# Altium footprint library EButterflyPcbLib.PcbLib: 106 footprints (part 3 of 7)
Each footprint in its own frame and in the unit in brackets; x right, y up, seen from the top. Pads: shape width x height; smd on the part's side, far side on the other; paste and mask are expansions set on the pad; w line width, h text height; cw(c..) or ccw(c..) is an arc to the next point about the centre after c.
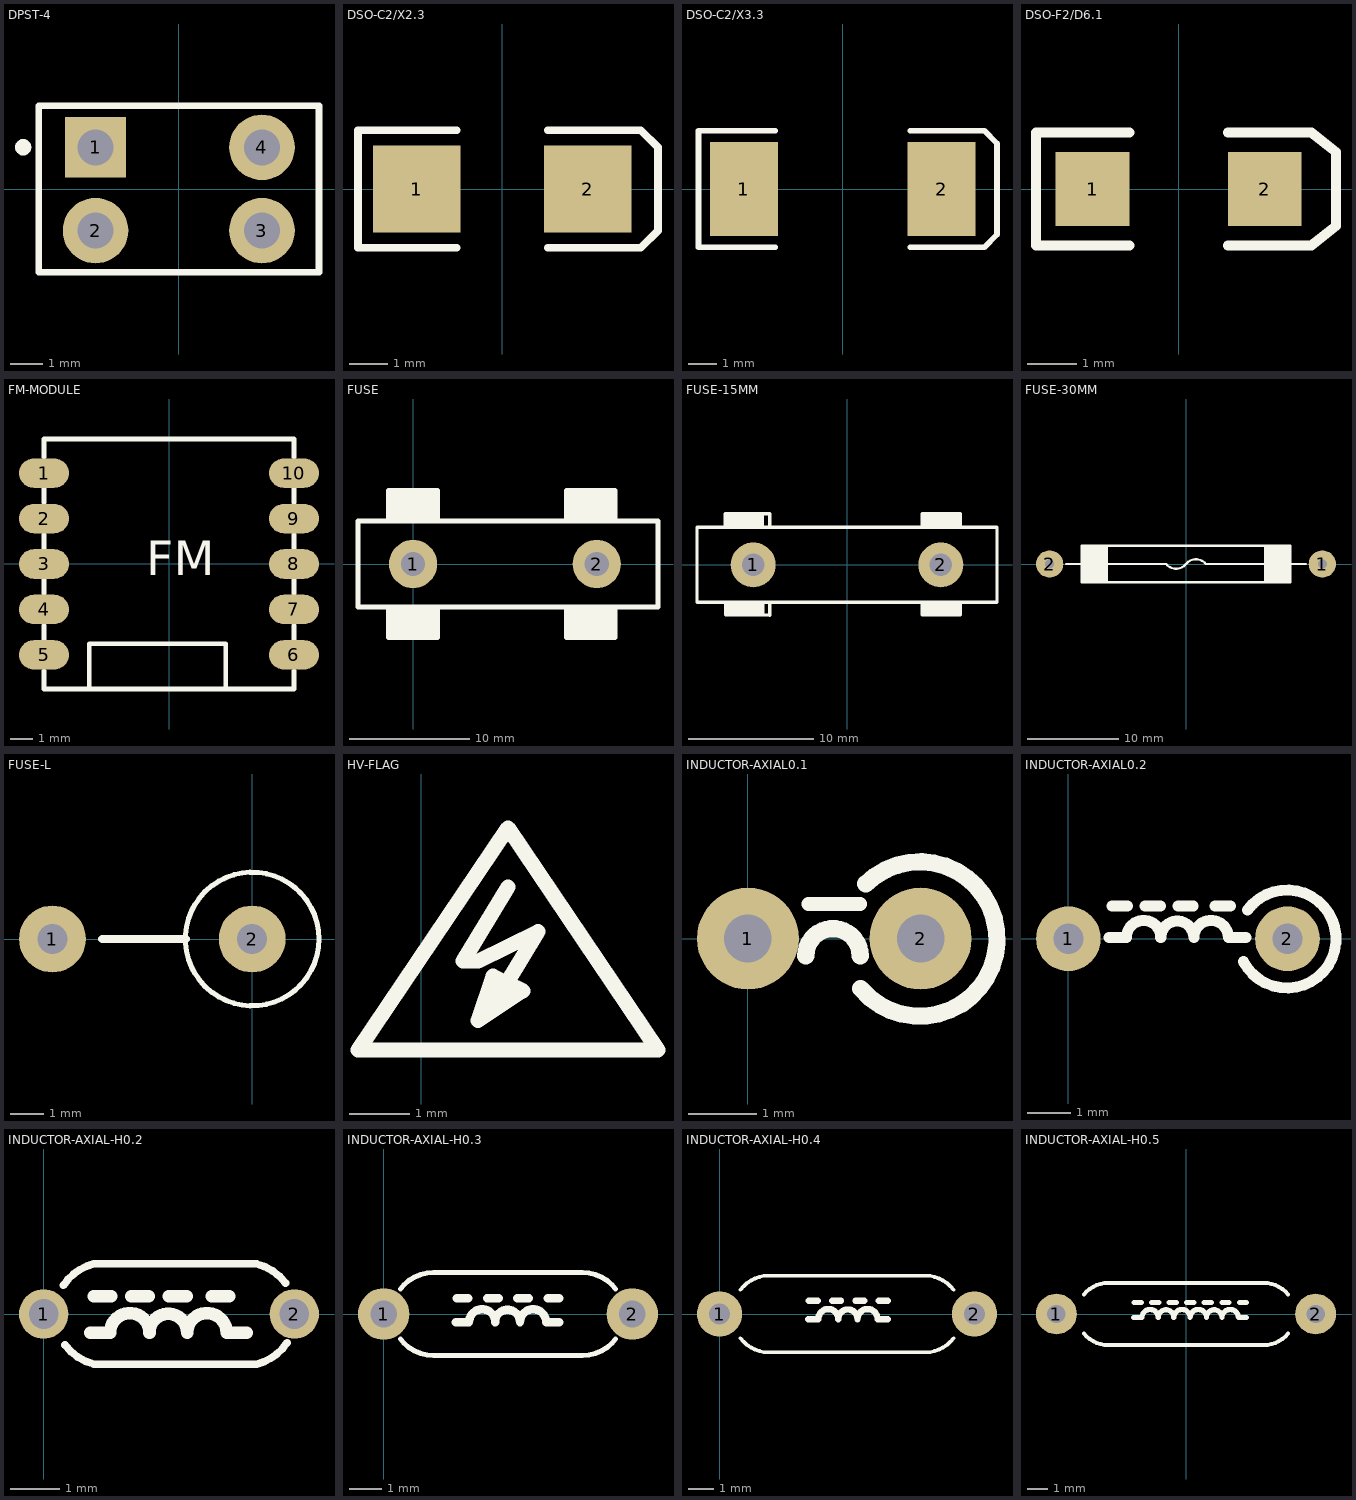
[diagram p2: the footprints below, top view; thin cyan lines are the x and y axes]

## DPST-4 [mm]
pads (4):
  rect 1.85x1.85 hole 1.1: 1(-2.54,1.27)
  round 2 hole 1.1: 2(-2.54,-1.27) 3(2.54,-1.27) 4(2.54,1.27)
Top Overlay:
  circle w0.25: c-4.751,1.274 r0.125
  lines w0.2: -4.28,-2.54 4.28,-2.54 4.28,2.54 -4.28,2.54 -4.28,-2.54

## DSO-C2/X2.3 [mm]
pads (2):
  rect 2.3x2.3 smd: 1(-2.25,0) 2(2.25,0)
Top Overlay:
  lines w0.2: -1.2,-1.55 -3.8,-1.55 -3.8,1.55 -1.2,1.55 ; 1.2,-1.55 3.65,-1.55 4.1,-1.1 4.1,1.1 3.65,1.55 1.2,1.55
3D body: height 1.5, standoff 0, extent -1.75,-0.75 1.75,0.75

## DSO-C2/X3.3 [mm]
pads (2):
  rect 2.4x3.3 smd: 1(-3.475,0) 2(3.475,0)
Top Overlay:
  lines w0.2: -2.375,-2.05 -5.075,-2.05 -5.075,2.05 -2.375,2.05 ; 2.375,-2.05 4.975,-2.05 5.425,-1.6 5.425,1.6 4.975,2.055 ; 2.375,2.05 4.975,2.05
3D body: height 1.5, standoff 0, extent -1.75,-0.75 1.75,0.75

## DSO-F2/D6.1 [mm]
pads (2):
  rect 1.5x1.5 smd: 1(-1.75,0) 2(1.75,0)
Top Overlay:
  lines w0.2: -1,-1.15 -2.9,-1.15 -2.9,1.15 -1,1.15 ; 1,-1.15 2.7,-1.15 3.2,-0.75 3.2,0.75 2.7,1.15 1,1.15
3D body: height 1.5, standoff 0, extent -1.75,-0.75 1.75,0.75

## FM-MODULE [mm]
height 2
pads (10):
  oval 2.2x1.3 smd: 1(-5.5,4) 2(-5.5,2) 3(-5.5,0) 4(-5.5,-2) 5(-5.5,-4) 6(5.5,-4) 7(5.5,-2) 8(5.5,0) 9(5.5,2) 10(5.5,4)
Top Overlay:
  lines w0.2: -5.5,-4.7 -5.5,-5.5 5.5,-5.5 5.5,-4.7 ; -5.5,-3.3 -5.5,-2.7 ; -5.5,-1.3 -5.5,-0.7 ; -5.5,0.7 -5.5,1.3 ; -5.5,2.7 -5.5,3.3 ; -5.5,4.7 -5.5,5.5 5.5,5.5 5.5,4.7 ; 5.5,-3.3 5.5,-2.7 ; 5.5,-1.3 5.5,-0.7 ; 5.5,0.7 5.5,1.3 ; 5.5,2.7 5.5,3.3 ; -3.5,-5.5 -3.5,-3.5 2.5,-3.5 2.5,-5.5 -3.5,-5.5
  text "FM" at -1,-0.5 h1.52
3D body: height 1, standoff 0, extent -3.499,-5.499 2.499,-3.501
3D body: height 2, standoff 0, extent -5.499,-5.499 5.499,5.499

## FUSE [mm]
pads (2):
  round 4 hole 2: 1(0,0) 2(15.24,0)
Top Overlay:
  rectangle: 12.7,-6.096 16.764,-3.556
  rectangle: -2.032,-6.096 2.032,-3.556
  rectangle: 12.7,3.556 16.764,6.096
  rectangle: -2.032,3.556 2.032,6.096
  lines w0.4: -2.032,-3.556 -2.032,-6.096 2.032,-6.096 2.032,-3.556 ; -2.032,3.556 -2.032,6.096 2.032,6.096 2.032,3.556 ; 12.7,-3.556 12.7,-6.096 16.764,-6.096 16.764,-3.556 ; 12.7,3.556 12.7,6.096 16.764,6.096 16.764,4.064 16.764,3.556 ; -4.572,-3.556 20.32,-3.556 20.32,3.556 -4.572,3.556 -4.572,2.54 -4.572,-2.54 -4.572,-3.556
3D body: height 10.5, standoff -2.87, extent -4.301,-4.674 20.099,4.726
3D body: height 8.55, standoff 3.45, extent -2.152,-2.311 17.548,2.789

## FUSE-15MM [mm]
height 6
pads (2):
  round 3.6 hole 1.8: 1(-7.5,0) 2(7.5,0)
Top Overlay:
  rectangle: -9.666,-3.94 -6.618,-2.911
  rectangle: -9.679,3.137 -6.631,4.166
  rectangle: 6.069,-4.013 9.117,-2.984
  rectangle: 6.006,3.048 9.054,4.077
  lines w0.254: -9.742,3.061 -9.742,4.077 -6.186,4.077 -6.186,3.061 ; -9.728,-3 -9.728,-4.016 -6.172,-4.016 ; -6.186,-4.039 -6.186,-3.023 ; 6.006,-2.997 6.006,-4.013 9.054,-4.013 ; 6.006,3.048 6.006,4.077 9.054,4.077 9.054,3.048 ; 9.054,-4.026 9.054,-3.023 ; -12,-3 -12,3 12,3 12,-3 -12,-3
3D body: height 10.5, standoff -2.87, extent -12.251,-4.75 12.149,4.65
3D body: height 8.55, standoff 3.45, extent -9.373,-2.489 10.327,2.611

## FUSE-30MM [mm]
height 10
pads (2):
  round 3 hole 1: 1(15,0) 2(-15,0)
Top Overlay:
  rectangle: -11.5,-2.025 -8.579,2
  region: 11.5,2 8.579,2 8.579,-2.025 11.5,-2.025
  lines w0.254: -13.208,0 -11.684,0 ; -11.176,0 -2.179,0 ; -2.179,-0.007 ccw(c-1.092,0.889) 0,0 cw(c1.092,-0.889) 2.179,0.007 ; 2.179,0 3.607,0 ; 3.529,0.004 10.668,0 ; 11.684,0 13.208,0 ; -11.5,-2 -11.5,2 11.5,2 11.5,-2 -11.5,-2
3D body: height 5, standoff 0, extent -10.262,-2.515 9.738,2.485

## FUSE-L [mil]
height 511.81
pads (2):
  round 79 hole 35.43: 1(-236.22,0) 2(0,0)
Top Overlay:
  circle w6: c0,0 r79
  lines w10: -177.17,0 -78.74,0
3D body: height 545.04, standoff -77.66, extent -249.02,-74.21 77.68,83.27

## HV-FLAG [mm]
Top Overlay:
  lines w0.249: 1.191,-92.772 1.937,-91.542 0.942,-92.034 0.693,-92.034 1.44,-90.804 ; -1.048,-93.51 1.44,-89.821 3.927,-93.51 -1.048,-93.51 ; 0.942,-93.018 1.191,-92.28 1.688,-92.526 0.942,-93.018

## INDUCTOR-AXIAL0.1 [mm]
pads (2):
  round 1.5 hole 0.7: 1(0,0) 2(2.54,0)
Top Overlay:
  lines w0.203: 0.889,0.508 1.651,0.508
  lines w0.254: -0.399,0.025 cw(c-0.015,0.025) 0.368,0.025 ; 0.851,-0.254 cw(c1.251,-0.254) 1.651,-0.254 ; 1.658,-0.736 ccw(c2.529,-0.007) 1.735,0.806

## INDUCTOR-AXIAL0.2 [mm]
pads (2):
  round 1.5 hole 0.7: 1(0,0) 2(5.08,0)
Top Overlay:
  lines w0.254: 0.94,0.025 1.346,0.025 cw(c1.746,0.025) 2.146,0.025 ; 1.016,0.762 1.372,0.762 ; 1.778,0.762 2.134,0.762 ; 2.141,0.025 cw(c2.525,0.025) 2.908,0.025 cw(c3.308,0.025) 3.708,0.025 4.115,0.025 ; 2.54,0.762 2.896,0.762 ; 3.404,0.762 3.759,0.762 ; 4.057,-0.523 ccw(c5.069,-0.007) 4.157,0.671

## INDUCTOR-AXIAL-H0.2 [mm]
height 2
pads (2):
  round 1 hole 0.6: 1(0,0) 2(5.08,0)
Top Overlay:
  lines w0.154: 0.399,0.581 cw(c1.27,0) 1.016,1.016 4.318,1.016 cw(c4.064,0) 4.902,0.628 ; 0.432,-0.628 ccw(c1.27,0) 1.016,-1.016 4.318,-1.016 ccw(c4.064,0) 4.935,-0.581
  lines w0.254: 0.94,-0.381 1.346,-0.381 cw(c1.746,-0.381) 2.146,-0.381 ; 1.016,0.356 1.372,0.356 ; 1.778,0.356 2.134,0.356 ; 2.141,-0.381 cw(c2.525,-0.381) 2.908,-0.381 cw(c3.308,-0.381) 3.708,-0.381 4.115,-0.381 ; 2.54,0.356 2.896,0.356 ; 3.404,0.356 3.759,0.356
3D body: height 2.91, standoff -2, extent -0.2,-0.935 5.33,0.885

## INDUCTOR-AXIAL-H0.3 [mil] "1/8W电阻"
height 78.74
pads (2):
  round 62 hole 32: 1(0,0) 2(300,0)
Top Overlay:
  lines w6.06: 20,-30 ccw(c60,0) 60,-50 240,-50 ccw(c240,0) 280,-30 ; 20,30 cw(c60,0) 60,50 240,50 cw(c240,0) 280,30
  lines w10: 87,-10 103,-10 cw(c118.75,-10) 134.5,-10 ; 88,19 102,19 ; 124.67,19 138.67,19 ; 134.3,-10 cw(c149.4,-10) 164.5,-10 cw(c180.25,-10) 196,-10 212,-10 ; 161.33,19 175.33,19 ; 198,19 212,19
3D body: height 88.58, standoff -59.06, extent -9.84,-39.37 309.85,39.37

## INDUCTOR-AXIAL-H0.4 [mm]
pads (2):
  round 1.8 hole 0.85: 1(0,0) 2(10.16,0)
Top Overlay:
  lines w0.154: 0.826,-0.965 ccw(c2.032,0) 1.778,-1.524 8.382,-1.524 ccw(c8.128,0) 9.334,-0.965 ; 0.826,0.965 cw(c2.032,0) 1.778,1.524 8.382,1.524 cw(c8.128,0) 9.334,0.965
  lines w0.254: 3.531,-0.203 3.937,-0.203 cw(c4.337,-0.203) 4.737,-0.203 ; 3.556,0.533 3.912,0.533 ; 4.487,0.533 4.843,0.533 ; 4.732,-0.203 cw(c5.116,-0.203) 5.499,-0.203 cw(c5.899,-0.203) 6.299,-0.203 6.706,-0.203 ; 5.419,0.533 5.774,0.533 ; 6.35,0.533 6.706,0.533
3D body: height 3.26, standoff -2, extent -0.305,-1.27 10.455,1.25

## INDUCTOR-AXIAL-H0.5 [mm]
pads (2):
  round 2 hole 0.9: 1(-6.35,0) 2(6.35,0)
Top Overlay:
  lines w0.2: -5,-0.952 ccw(c-3.81,0) -3.81,-1.524 3.81,-1.524 ccw(c3.81,0) 5,-0.952 ; -5,0.952 cw(c-3.81,0) -3.81,1.524 3.81,1.524 cw(c3.81,0) 5,0.952
  lines w0.254: -2.565,-0.178 -2.159,-0.178 cw(c-1.759,-0.178) -1.359,-0.178 ; -2.54,0.559 -2.184,0.559 ; -1.681,0.559 -1.325,0.559 ; -1.364,-0.178 cw(c-0.98,-0.178) -0.597,-0.178 cw(c-0.197,-0.178) 0.203,-0.178 cw(c0.603,-0.178) 1.003,-0.178 ; -0.821,0.559 -0.466,0.559 ; 0.038,0.559 0.394,0.559 ; 0.897,0.559 1.253,0.559 ; 0.998,-0.178 cw(c1.382,-0.178) 1.765,-0.178 cw(c2.165,-0.178) 2.565,-0.178 2.972,-0.178 ; 1.757,0.559 2.112,0.559 ; 2.616,0.559 2.972,0.559
3D body: height 2.75, standoff -1.5, extent -6.6,-1.5 6.6,1.5